# EAGLE library part LM293D (library Common-Parts-Library-Eagle)
Comparator Dual ±18V/36V 8-Pin SOIC
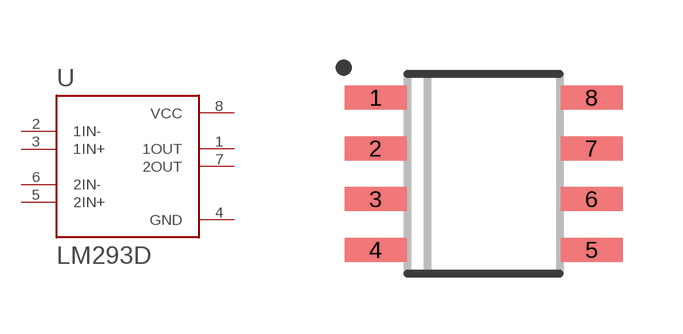
[diagram p70: symbol with the pads of LM293D_SOIC127P600X175-8N; footprint LM293D_SOIC127P600X175-8N]

Designator prefix U

## LM293D (MANUFACTURER: Texas Instruments)  [LM293D_SOIC127P600X175-8N]
1  1OUT  out
2  1IN-  in
3  1IN+  in
4  GND  pas
5  2IN+  in
6  2IN-  in
7  2OUT  out
8  VCC  pwr

## Footprint LM293D_SOIC127P600X175-8N (pad centres in mm)
smd 1.55 x 0.6: 1 -2.7,1.905; 2 -2.7,0.635; 3 -2.7,-0.635; 4 -2.7,-1.905; 5 2.7,-1.905; 6 2.7,-0.635; 7 2.7,0.635; 8 2.7,1.905